# EAGLE library part LTC4364 (library linear)
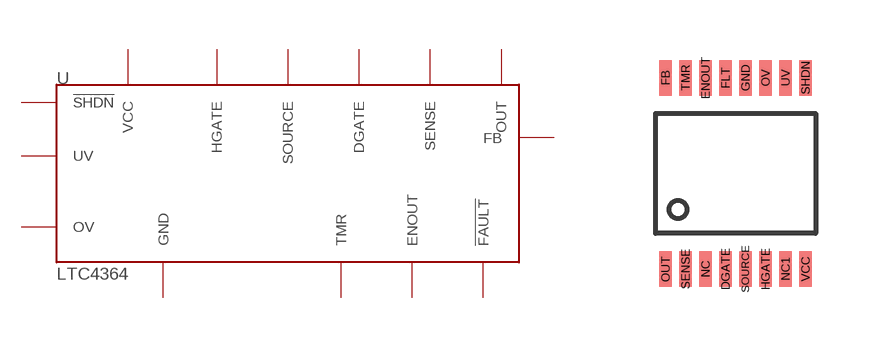
[diagram p318: symbol with the pads of MSOP16; footprint MSOP16]

Designator prefix -

## LTC4364MSOP  [MSOP16]
DGATE  DGATE
ENOUT  ENOUT
FB  FB
FLT  !FAULT!
GND  GND
HGATE  HGATE
OUT  OUT
OV  OV
SENSE  SENSE
SHDN  !SHDN!
SOURCE  SOURCE
TMR  TMR
UV  UV
VCC  VCC

## Footprint MSOP16 (pad centres in mm)
smd 0.305 x 0.889: DGATE -0.25,-2.39; ENOUT -0.75,2.39; FB -1.75,2.39; FLT -0.25,2.39; GND 0.25,2.39; HGATE 0.75,-2.39; NC -0.75,-2.39; NC1 1.25,-2.39; OUT -1.75,-2.39; OV 0.75,2.39; SENSE -1.25,-2.39; SHDN 1.75,2.39; SOURCE 0.25,-2.39; TMR -1.25,2.39; UV 1.25,2.39; VCC 1.75,-2.39